# Altium schematic symbol library HV101M035E077ETR.SchLib: 1 symbol
Pins are listed as number, name and electrical type; pins without a type are passive.

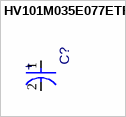
[diagram p0: symbol HV101M035E077ETR]

## HV101M035E077ETR
designator C?
pins: 1 A, 2 B
text: +